# Altium footprint library MyLib.PcbLib: 96 footprints (part 1 of 6)
Each footprint in its own frame and in the unit in brackets; x right, y up, seen from the top. Pads: shape width x height; smd on the part's side, far side on the other; paste and mask are expansions set on the pad; w line width, h text height; cw(c..) or ccw(c..) is an arc to the next point about the centre after c.
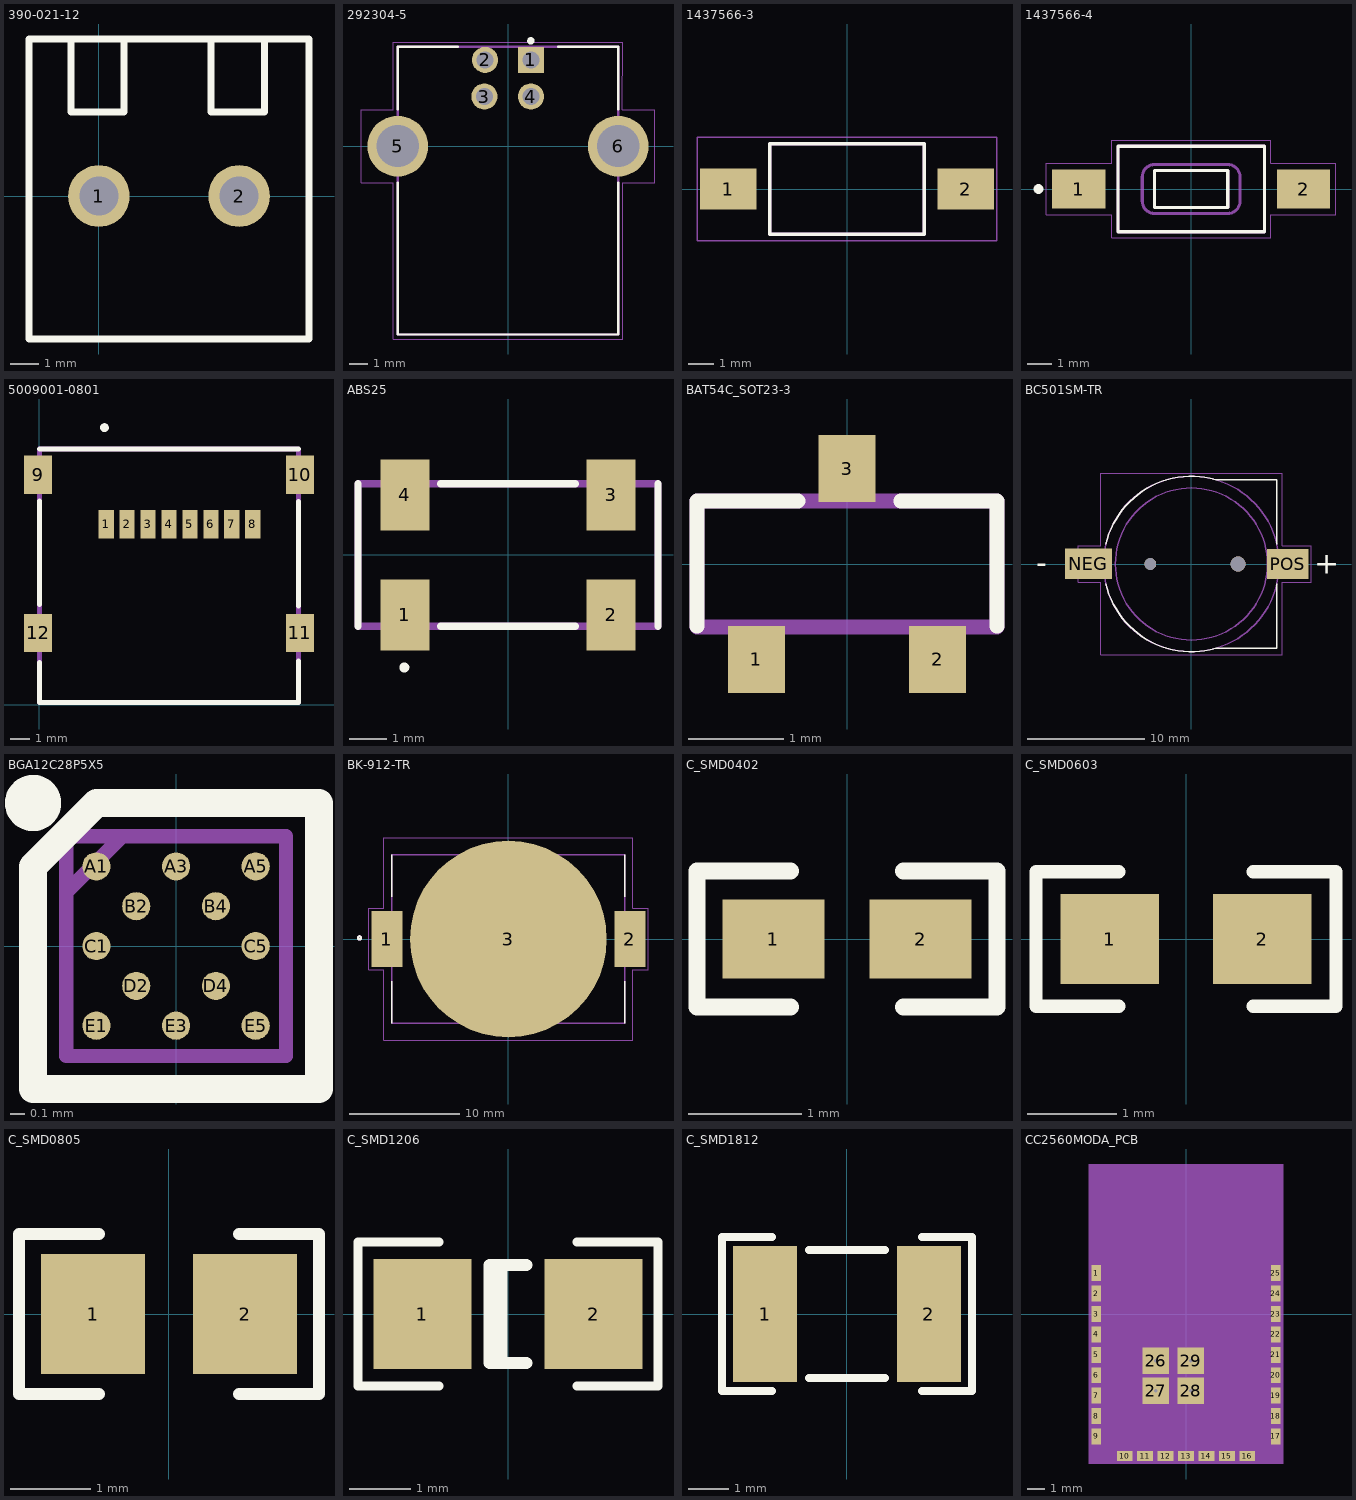
[diagram p0: the footprints below, top view; thin cyan lines are the x and y axes]

## 390-021-12 [mm]
height 15
pads (2):
  round 2.2 hole 1.4: 1(0,0) 2(5,0)
Top Overlay:
  lines w0.254: -1,5.6 -1,3 0.9,3 0.9,5.5 ; 4,5.6 4,3 5.9,3 5.9,5.6 ; -2.5,-5.1 7.5,-5.1 7.5,5.6 -2.5,5.6 -2.5,-5.1
Mechanical 1:
  text "Front" at 5.1,4.9 h1.2
3D body "User Library-DG300-5_0-02P-12.step": height 12.6, standoff -4.4, extent -2.5,-4.9 7.5,4.1

## 292304-5 [mm] "USB typeA"
pads (6):
  rect 1.428x1.428 hole 0.92: 1(1.25,4.71)
  round 1.428 hole 0.92: 2(-1.25,4.71) 3(-1.29,2.71) 4(1.25,2.71)
  round 3.316 hole 2.3: 5(-6.02,0) 6(6.02,0)
Top Overlay:
  circle w0.2: c1.25,5.75 r0.1
  lines w0.127: -6.02,-2 -6.02,-10.28 6.02,-10.28 6.02,-2 ; -6.02,2 -6.02,5.43 ; -6,5.43 -2.75,5.43 ; 2.75,5.43 6.02,5.43 6.02,2
Mechanical 1:
  lines w0.127: -6.02,-10.28 6.02,-10.28 6.02,5.43 -6.02,5.43 -6.02,-10.28
Mechanical 4:
  lines w0.05: -8,-2 -8,2 -6.27,2 -6.27,5.68 6.27,5.68 6.25,2 8,2 8,-2 6.27,-2 6.27,-10.53 -6.27,-10.53 -6.27,-2 -8,-2

## 1437566-3 [mm]
pads (2):
  rect 2.18x1.6 smd: 1(-4.6,0) 2(4.6,0)
Top Overlay:
  lines w0.127: -3,-1.75 -3,1.75 3,1.75 3,-1.75 -3,-1.75
Mechanical 1:
  lines w0.127: -3,-1.75 -3,1.75 3,1.75 3,-1.75 -3,-1.75
Mechanical 15:
  lines w0.05: -5.815,-2 -5.815,2 5.815,2 5.815,-2 -5.815,-2
3D body "1437566-3.stp": height 4.87, standoff 0, extent -5.54,-1.75 5.54,1.75

## 1437566-4 [mm]
pads (2):
  rect 2.18x1.6 smd: 1(-4.6,0) 2(4.6,0)
Top Overlay:
  circle w0.2: c-6.25,0 r0.1
  lines w0.127: -3,-1.75 -3,1.75 3,1.75 3,-1.75 -3,-1.75 ; -1.5,-0.75 -1.5,0.75 1.5,0.75 1.5,-0.75 -1.5,-0.75
Mechanical 1:
  circle w0.2: c-4.6,0 r0.1
  lines w0.127: -3,-1.75 -3,1.75 3,1.75 3,-1.75 -3,-1.75 ; -2,-0.5 ccw(c-1.5,-0.5) -1.5,-1 1.5,-1 ccw(c1.5,-0.5) 2,-0.5 2,0.5 ccw(c1.5,0.5) 1.5,1 -1.5,1 ccw(c-1.5,0.5) -2,0.5 -2,-0.5 ; -1.5,-0.75 -1.5,0.75 1.5,0.75 1.5,-0.75 -1.5,-0.75
Mechanical 15:
  lines w0.05: -5.93,-1.05 -3.25,-1.05 -3.25,-2 3.25,-2 3.25,-1.05 5.93,-1.05 5.93,1.05 3.25,1.05 3.25,2 -3.25,2 -3.25,1.05 -5.93,1.05 -5.93,-1.05

## 5009001-0801 [mm]
pads (12):
  rect 0.8x1.5 smd: 1(3.5,9.477) 2(4.6,9.477) 3(5.7,9.477) 4(6.8,9.477) 5(7.9,9.477) 6(9,9.477) 7(10.1,9.477) 8(11.2,9.477)
  rect 1.45x2 smd: 9(-0.075,12.077) 10(13.675,12.077) 11(13.675,3.777) 12(-0.075,3.777)
Top Overlay:
  circle w0.254: c3.412,14.549 r0.103
  lines w0.254: 0,2.235 0,0.127 13.6,0.127 13.6,2.304 ; 0,5.261 0,10.691 ; 0,13.427 13.6,13.427 ; 13.6,5.169 13.6,10.668
Mechanical 15:
  lines w0.254: 0,0.127 13.6,0.127 13.6,13.427 0,13.427 0,0.127
3D body "500901-0801.stp": height 1.93, standoff -0.02, extent -0.442,0.127 14.158,14.627

## ABS25 [mm]
pads (4):
  rect 1.3x1.9 smd: 1(-2.75,-1.6) 2(2.75,-1.6) 3(2.75,1.6) 4(-2.75,1.6)
Top Overlay:
  circle w0.2: c-2.766,-3.001 r0.033
  lines w0.2: -4,-1.9 -4,1.9 ; -1.8,-1.9 1.8,-1.9 ; -1.8,1.9 1.8,1.9 ; 4,-1.9 4,1.9
Mechanical 15:
  lines w0.2: -4,-1.9 -4,1.9 4,1.9 4,-1.9 -4,-1.9

## BAT54C_SOT23-3 [mm]
pads (3):
  rect 0.6x0.7 smd: 1(-0.95,-1) 2(0.95,-1) 3(0,1)
Top Overlay:
  lines w0.152: -1.572,-0.652 -1.572,0.66 -0.514,0.66 ; 0.564,0.66 1.572,0.66 1.572,-0.652
Mechanical 15:
  region: -1.17,-0.711 -0.711,-0.711 -0.711,-1.297 -1.17,-1.297
  region: 0.711,-0.711 1.168,-0.711 1.168,-1.296 0.711,-1.296
  region: -0.229,1.295 0.229,1.295 0.229,0.711 -0.229,0.711
  lines w0.152: -1.572,-0.66 -1.572,0.66 1.572,0.66 1.572,-0.66 -1.572,-0.66
3D body "BAT54C,215.stp": height 1.1, standoff 0, extent -1.45,-1.175 1.45,1.125

## BC501SM-TR [mm]
pads (4):
  rect 4x2.6 smd: NEG(-8.8,0.025)
  round 1 hole 1 unplated: None(-3.5,0)
  round 1.3 hole 1.3 unplated: None(4,0)
  rect 3.54x2.6 smd: POS(8.23,0)
Top Overlay:
  lines w0.127: -7.305,-1.679 ccw(c0.01,0.01) 2.079,-7.206 ; -7.305,1.679 cw(c0.01,-0.01) 2.079,7.206 ; 2.1,-7.2 7.3,-7.2 7.3,-1.7 ; 2.1,7.2 7.3,7.2 7.3,1.7
  text "+" at 10.49,-0.82 h1.88
  text "-" at -13.275,-0.775 h1.88
Mechanical 4:
  circle w0.127: c0,0 r7.5
  circle w0.127: c0.01,0 r6.5
  circle w0.127: c0,0 r7.5
  circle w0.127: c0.01,0 r6.5
Mechanical 16:
  lines w0.05: -9.65,-1.55 -7.75,-1.55 -7.75,-7.75 7.75,-7.75 7.75,-1.55 10.25,-1.55 10.25,1.55 7.75,1.55 7.75,7.75 -7.75,7.75 -7.75,1.55 -9.65,1.55 -9.65,-1.55
3D body "User Library-s8411-45r_asm.STEP": height 4.35, standoff -0.9, extent -9.976,-7.424 9.225,7.325

## BGA12C28P5X5 [mm]
pads (12):
  round 0.2 smd: A1(-0.566,0.566) A3(0,0.566) A5(0.566,0.566) B2(-0.283,0.283) B4(0.283,0.283) C1(-0.566,0) C5(0.566,0) D2(-0.283,-0.283) D4(0.283,-0.283) E1(-0.566,-0.566) E3(0,-0.566) E5(0.566,-0.566)
Top Overlay:
  circle w0.2: c-1.016,1.016 r0.1
  lines w0.2: -1.016,-1.016 1.016,-1.016 1.016,1.016 -0.566,1.016 -1.016,0.566 -1.016,-1.016
Mechanical 15:
  lines w0.1: -0.78,0.382 -0.382,0.78 ; -0.78,-0.78 0.78,-0.78 0.78,0.78 -0.78,0.78 -0.78,-0.78

## BK-912-TR [mm] "CR2032battery holder"
pads (3):
  rect 2.79x5.08 smd: 1(-10.985,0) 2(10.985,0)
  round 17.78 smd: 3(0,0)
Top Overlay:
  circle w0.2: c-13.45,0.1 r0.141
  lines w0.127: -10.54,-7.62 -10.54,-3.81 ; -10.54,3.81 -10.54,7.62 ; 10.54,-7.62 10.54,-3.81 ; 10.54,3.81 10.54,7.62
Mechanical 15:
  circle w0.2: c-13.45,0.1 r0.141
  lines w0.127: -10.54,-7.62 -10.54,7.62 10.54,7.62 10.54,-7.62 -10.54,-7.62
Mechanical 16:
  lines w0.05: -12.625,-2.8 -12.625,2.8 -11.25,2.8 -11.25,9.14 11.25,9.14 11.25,2.8 12.625,2.8 12.625,-2.8 11.25,-2.8 11.25,-9.14 -11.25,-9.14 -11.25,-2.8 -12.625,-2.8
3D body "User Library-BK-912_V1I3.STEP": height 4.47, standoff 0, extent -11.605,-7.893 11.255,7.345

## C_SMD0402 [mm]
pads (2):
  rect 0.9x0.7 smd: 1(-0.65,0) 2(0.65,0)
Top Overlay:
  lines w0.15: -0.5,-0.6 -1.325,-0.6 -1.325,0.6 -0.5,0.6 ; 0.5,-0.6 1.325,-0.6 1.325,0.6 0.5,0.6
3D body "CAPC-0402-T0.55-BN.stp": height 0.55, standoff 0, extent -0.525,-0.275 0.525,0.275

## C_SMD0603 [mm]
pads (2):
  rect 1.1x1 smd: 1(-0.85,0) 2(0.85,0)
Top Overlay:
  lines w0.15: -0.75,-0.75 -1.675,-0.75 -1.675,0.75 -0.75,0.75 ; 0.75,-0.75 1.675,-0.75 1.675,0.75 0.75,0.75
3D body "CAPC-0603-T0.9-BN.stp": height 0.9, standoff 0, extent -0.85,-0.45 0.85,0.45

## C_SMD0805 [mm]
pads (2):
  rect 1.3x1.5 smd: 1(-0.95,0) 2(0.95,0)
Top Overlay:
  lines w0.15: -0.875,-1 -1.875,-1 -1.875,1 -0.875,1 ; 0.875,-1 1.875,-1 1.875,1 0.875,1
3D body "CAPC-0805-T0.75-BN.stp": height 0.75, standoff 0, extent -1.05,-0.675 1.05,0.675

## C_SMD1206 [mm]
pads (2):
  rect 1.6x1.8 smd: 1(-1.4,0) 2(1.4,0)
Top Overlay:
  lines w0.15: -1.125,-1.175 -2.45,-1.175 -2.45,1.175 -1.125,1.175 ; 1.125,-1.175 2.45,-1.175 2.45,1.175 1.125,1.175
  lines w0.2: -0.11,-0.8 -0.11,0.8 ; 0.3,-0.8 -0.3,-0.8 -0.3,0.8 0.3,0.8
3D body "CAPC-1206-T1.0-BN.stp": height 1, standoff 0, extent -1.675,-0.875 1.675,0.875

## C_SMD1812 [mm]
pads (2):
  rect 1.6x3.4 smd: 1(-2.05,0) 2(2.05,0)
Top Overlay:
  lines w0.2: -1.875,-1.925 -3.125,-1.925 -3.125,1.925 -1.875,1.925 ; -0.95,-1.6 0.95,-1.6 ; -0.95,1.6 0.95,1.6 ; 1.875,-1.925 3.125,-1.925 3.125,1.925 1.875,1.925

## CC2560MODA_PCB [mm]
height 2.69
pads (29):
  rrect5% 0.55x0.9 smd mask+0.05: 1(-5.05,2.3) 2(-5.05,1.15) 3(-5.05,0) 4(-5.05,-1.15) 5(-5.05,-2.3) 6(-5.05,-3.45) 7(-5.05,-4.6) 8(-5.05,-5.75) 9(-5.05,-6.9) 17(5.05,-6.9) 18(5.05,-5.75) 19(5.05,-4.6) 20(5.05,-3.45) 21(5.05,-2.3) 22(5.05,-1.15) 23(5.05,0) 24(5.05,1.15) 25(5.05,2.3)
  rrect5% 0.9x0.55 smd mask+0.05: 10(-3.45,-8) 11(-2.3,-8) 12(-1.15,-8) 13(0,-8) 14(1.15,-8) 15(2.3,-8) 16(3.45,-8)
  rect 1.5x1.5 hole 0.2 mask+0.07: 26(-1.7,-2.625) 27(-1.7,-4.325) 28(0.265,-4.325) 29(0.265,-2.625)
Mechanical 1:
  rectangle: -5.5,-8.45 5.5,8.45